# EAGLE library part FP2 (library relay)
SIGNAL RELAY DPDT, non-latching
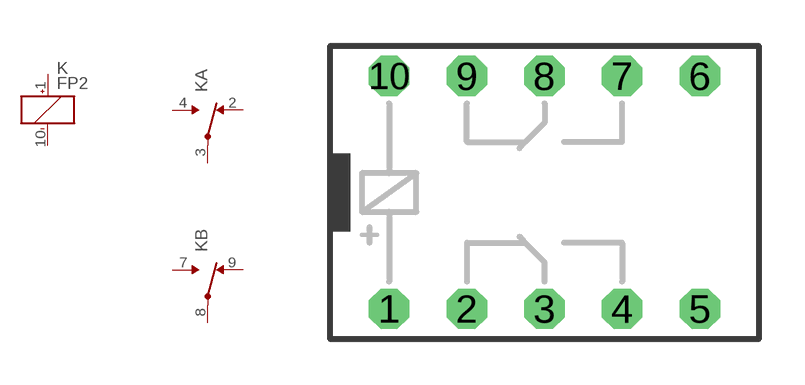
[diagram p57: symbol with the pads of FP2; footprint FP2]

Designator prefix K; gates A=U B=U C=K+-

## FP2  [FP2]
1  C:+  pas
2  A:NC  pas
3  A:COM  pas
4  A:NO  pas
7  B:NO  pas
8  B:COM  pas
9  B:NC  pas
10  C:-  pas

## Footprint FP2 (pad centres in mm)
SIGNAL RELAY TYCO/AXICOM
drill 0.813 octagon: 1 -5.08,-3.81; 2 -2.54,-3.81; 3 0,-3.81; 4 2.54,-3.81; 5 5.08,-3.81; 6 5.08,3.81; 7 2.54,3.81; 8 0,3.81; 9 -2.54,3.81; 10 -5.08,3.81